# Altium footprint library RESC1005X40L25N.PcbLib: 1 footprints
Each footprint in its own frame and in the unit in brackets; x right, y up, seen from the top. Pads: shape width x height; smd on the part's side, far side on the other; paste and mask are expansions set on the pad; w line width, h text height; cw(c..) or ccw(c..) is an arc to the next point about the centre after c.
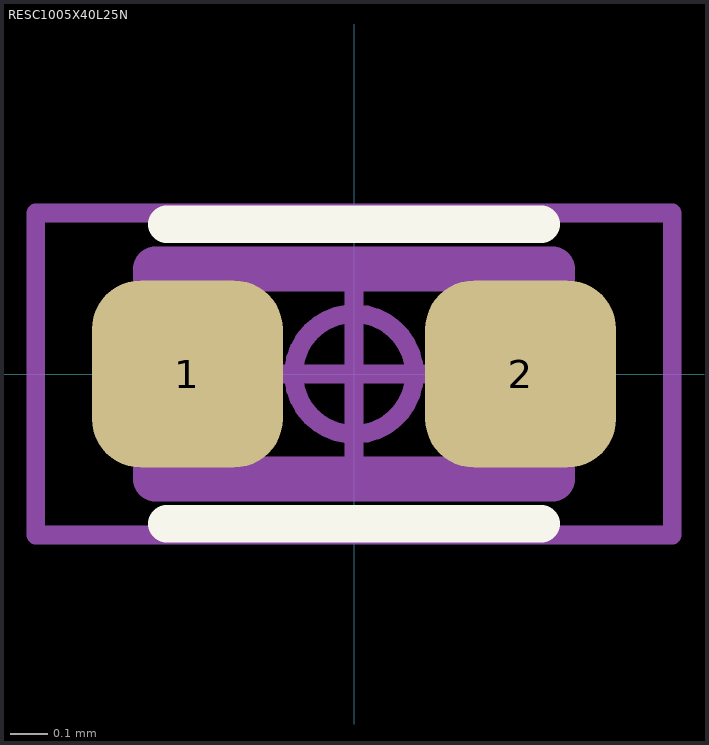
[diagram p0: the footprint, top view; thin cyan lines are the x and y axes]

## RESC1005X40L25N [mm] "Resistor, Chip; 1.00 mm L X 0.50 mm W X 0.40 mm H body"
height 0.4
pads (2):
  rrect52% 0.51x0.5 smd: 1(-0.445,0) 2(0.445,0)
Top Overlay:
  lines w0.1: -0.5,-0.4 0.5,-0.4 ; -0.5,0.4 0.5,0.4
Fab - Detail1, HDI1:
  lines w0.12: -0.53,-0.28 0.53,-0.28 0.53,0.28 -0.53,0.28 -0.53,-0.28
Courtyards/Models - Top:
  circle w0.05: c0,0 r0.161
  lines w0.05: -0.215,0 0.215,0 ; 0,-0.215 0,0.215 ; -0.85,-0.43 0.85,-0.43 0.85,0.43 -0.85,0.43 -0.85,-0.43
3D body: height 0.37, standoff 0.05, extent -0.508,-0.254 0.508,0.254